# Altium schematic symbol library SCH - MCU - NXP MIMX8MM4CVTKZAA.Schlib: 1 symbol
Pins are listed as number, name and electrical type; pins without a type are passive.

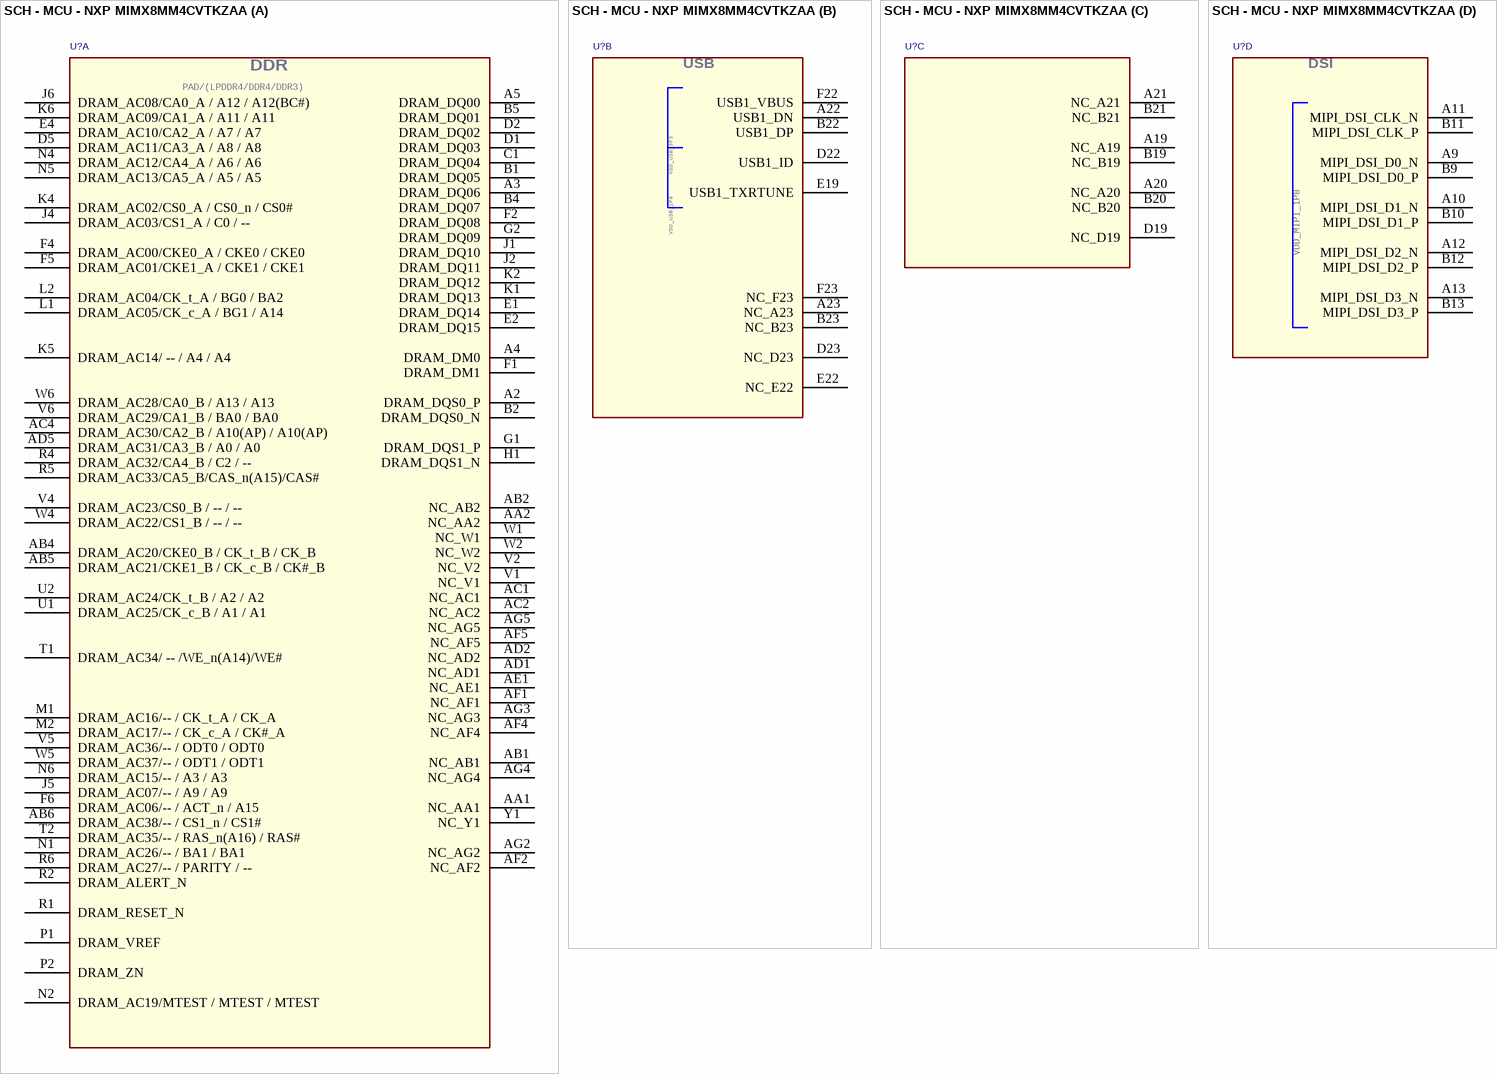
[diagram p0: symbol SCH - MCU - NXP MIMX8MM4CVTKZAA]

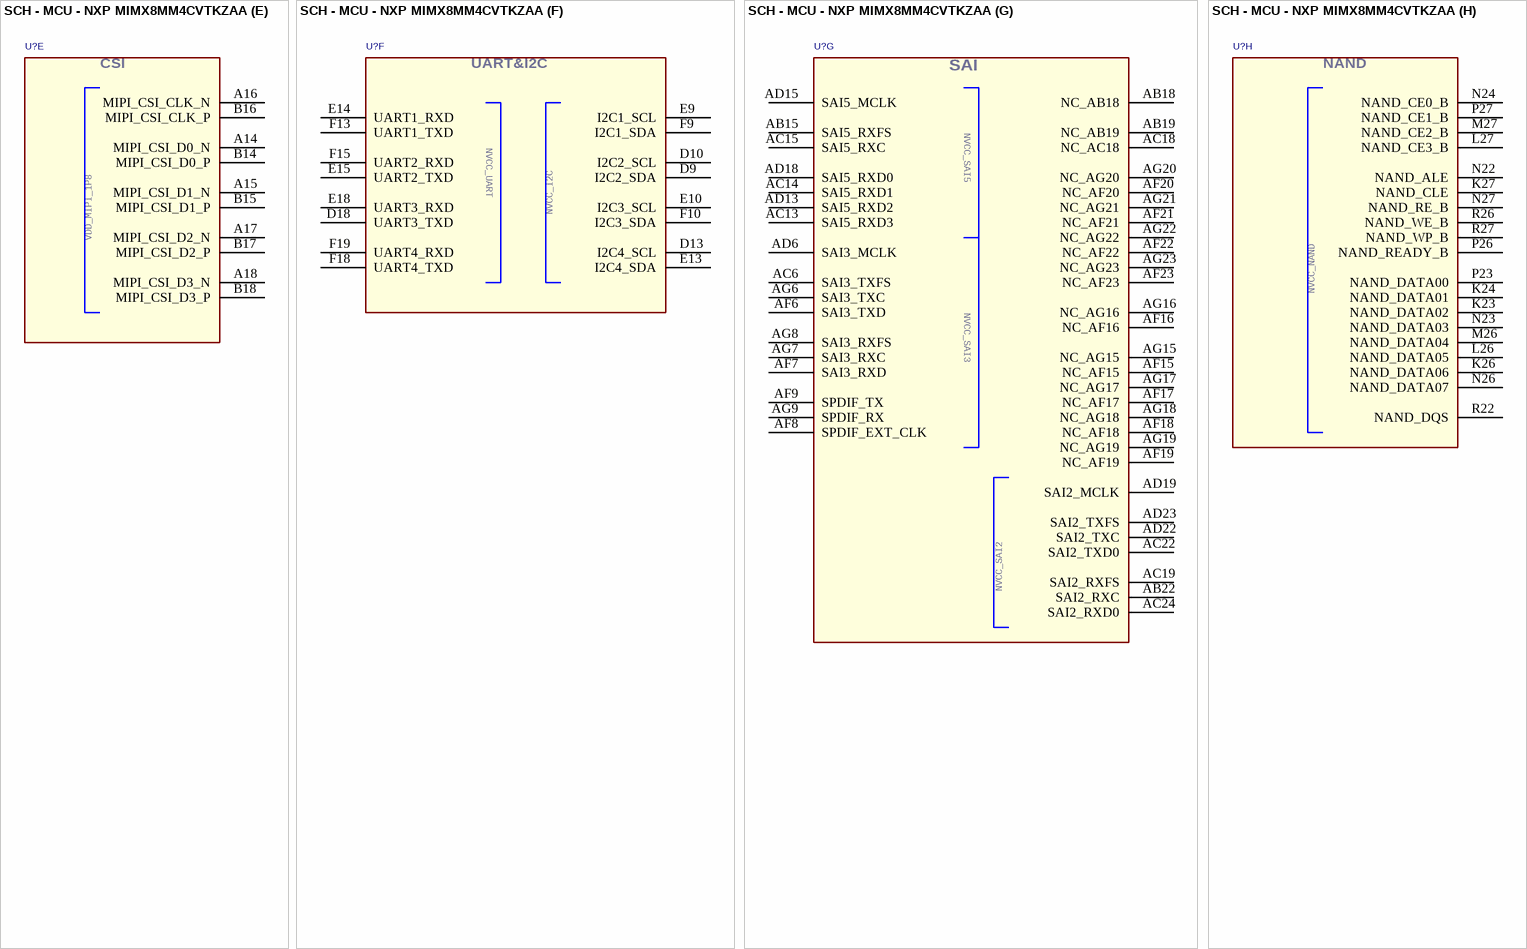
[diagram p1: symbol SCH - MCU - NXP MIMX8MM4CVTKZAA]

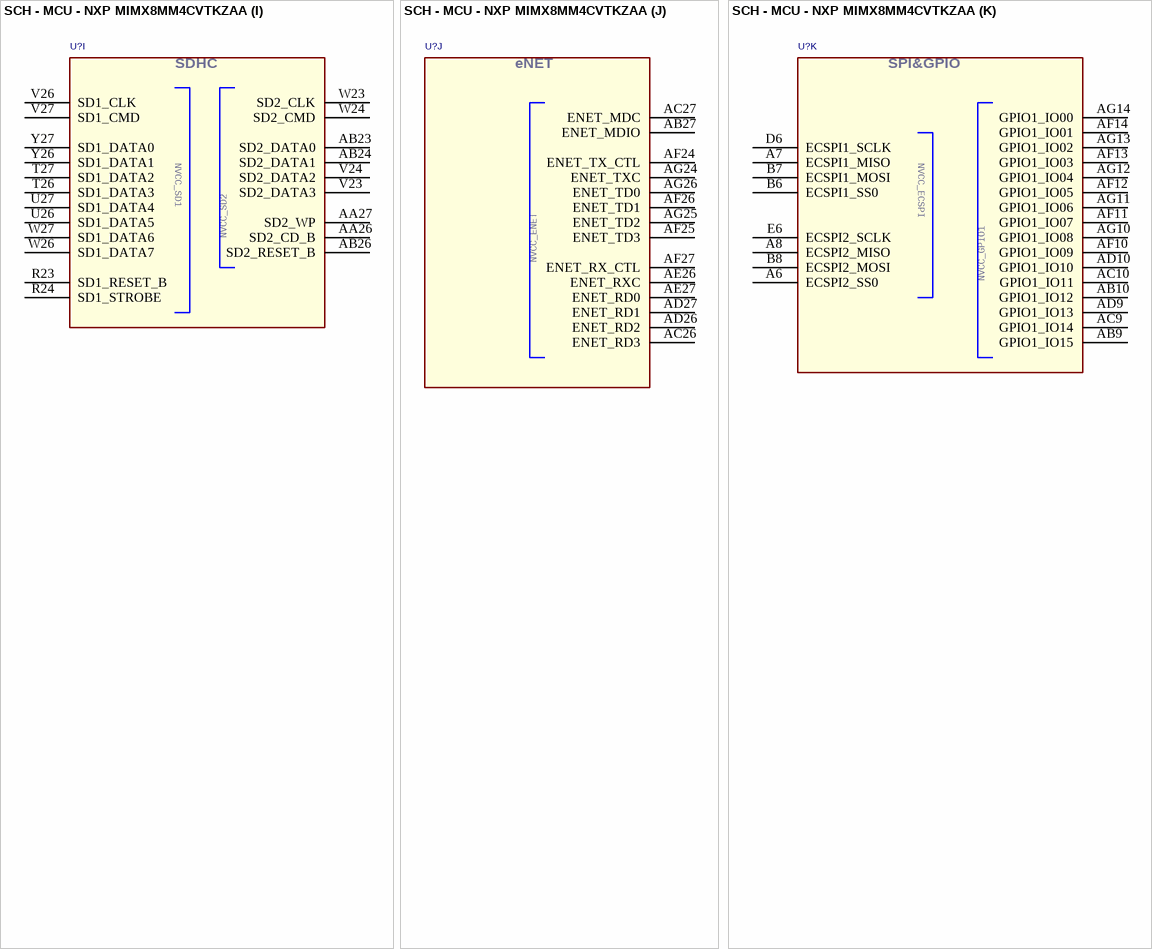
[diagram p2: symbol SCH - MCU - NXP MIMX8MM4CVTKZAA]

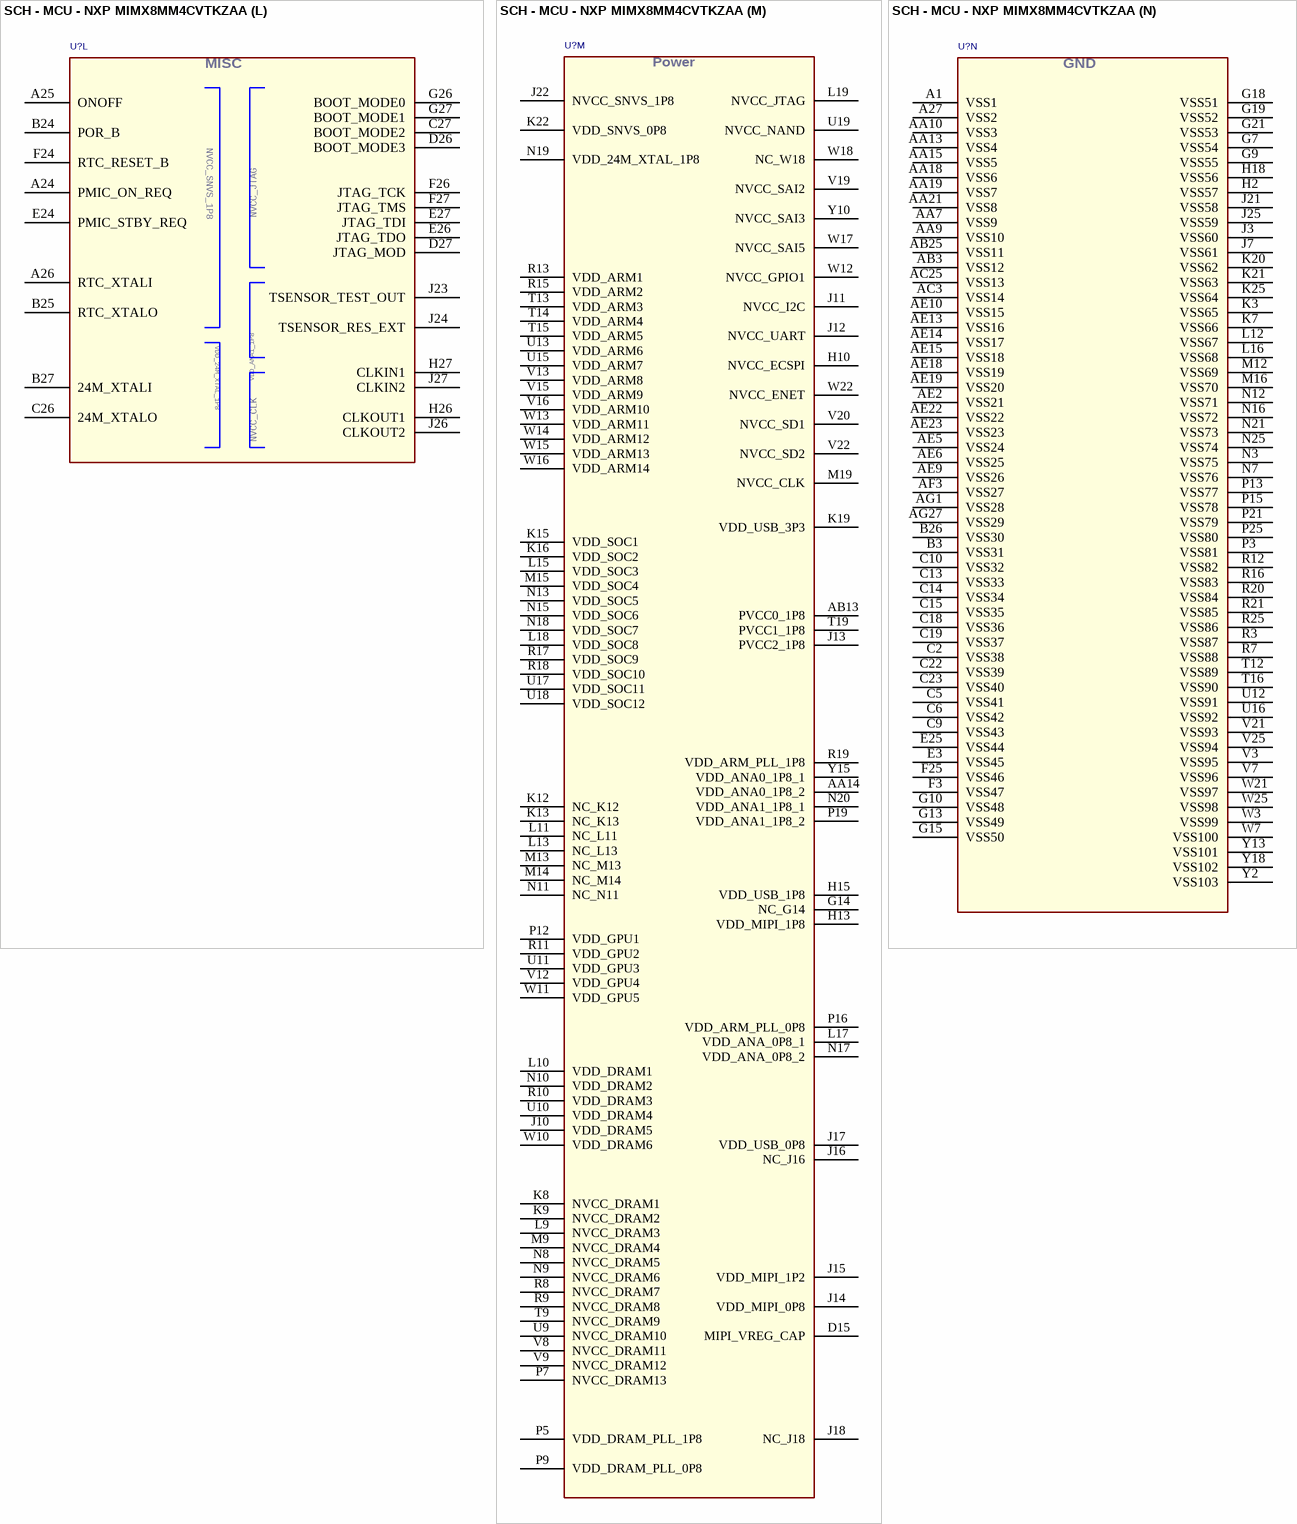
[diagram p3: symbol SCH - MCU - NXP MIMX8MM4CVTKZAA]

## SCH - MCU - NXP MIMX8MM4CVTKZAA
designator U?
part A pins: A2 DRAM_DQS0_P, A3 DRAM_DQ06, A4 DRAM_DM0, A5 DRAM_DQ00, AA1 NC_AA1, AA2 NC_AA2, AB1 NC_AB1, AB2 NC_AB2, AB4 DRAM_AC20/CKE0_B / CK_t_B / CK_B, AB5 DRAM_AC21/CKE1_B / CK_c_B / CK#_B, AB6 DRAM_AC38/-- / CS1_n / CS1#, AC1 NC_AC1, AC2 NC_AC2, AC4 DRAM_AC30/CA2_B / A10(AP) / A10(AP), AD1 NC_AD1, AD2 NC_AD2, AD5 DRAM_AC31/CA3_B / A0 / A0, AE1 NC_AE1, AF1 NC_AF1, AF2 NC_AF2, AF4 NC_AF4, AF5 NC_AF5, AG2 NC_AG2, AG3 NC_AG3, AG4 NC_AG4, AG5 NC_AG5, B1 DRAM_DQ05, B2 DRAM_DQS0_N, B4 DRAM_DQ07, B5 DRAM_DQ01, C1 DRAM_DQ04, D1 DRAM_DQ03, D2 DRAM_DQ02, D5 DRAM_AC11/CA3_A / A8 / A8, E1 DRAM_DQ14, E2 DRAM_DQ15, E4 DRAM_AC10/CA2_A / A7 / A7, F1 DRAM_DM1, F2 DRAM_DQ08, F4 DRAM_AC00/CKE0_A / CKE0 / CKE0, F5 DRAM_AC01/CKE1_A / CKE1 / CKE1, F6 DRAM_AC06/-- / ACT_n / A15, G1 DRAM_DQS1_P, G2 DRAM_DQ09, H1 DRAM_DQS1_N, J1 DRAM_DQ10, J2 DRAM_DQ11, J4 DRAM_AC03/CS1_A / C0 / --, J5 DRAM_AC07/-- / A9 / A9, J6 DRAM_AC08/CA0_A / A12 / A12(BC#), K1 DRAM_DQ13, K2 DRAM_DQ12, K4 DRAM_AC02/CS0_A / CS0_n / CS0#, K5 DRAM_AC14/ -- / A4 / A4, K6 DRAM_AC09/CA1_A / A11 / A11, L1 DRAM_AC05/CK_c_A / BG1 / A14, L2 DRAM_AC04/CK_t_A / BG0 / BA2, M1 DRAM_AC16/-- / CK_t_A / CK_A, M2 DRAM_AC17/-- / CK_c_A / CK#_A, N1 DRAM_AC26/-- / BA1 / BA1, N2 DRAM_AC19/MTEST / MTEST / MTEST, N4 DRAM_AC12/CA4_A / A6 / A6, N5 DRAM_AC13/CA5_A / A5 / A5, N6 DRAM_AC15/-- / A3 / A3, P1 DRAM_VREF, P2 DRAM_ZN, R1 DRAM_RESET_N, R2 DRAM_ALERT_N, R4 DRAM_AC32/CA4_B / C2 / --, R5 DRAM_AC33/CA5_B/CAS_n(A15)/CAS#, R6 DRAM_AC27/-- / PARITY / --, T1 DRAM_AC34/ -- /WE_n(A14)/WE#, T2 DRAM_AC35/-- / RAS_n(A16) / RAS#, U1 DRAM_AC25/CK_c_B / A1 / A1, U2 DRAM_AC24/CK_t_B / A2 / A2, V1 NC_V1, V2 NC_V2, V4 DRAM_AC23/CS0_B / -- / --, V5 DRAM_AC36/-- / ODT0 / ODT0, V6 DRAM_AC29/CA1_B / BA0 / BA0, W1 NC_W1, W2 NC_W2, W4 DRAM_AC22/CS1_B / -- / --, W5 DRAM_AC37/-- / ODT1 / ODT1, W6 DRAM_AC28/CA0_B / A13 / A13, Y1 NC_Y1
part B pins: A22 USB1_DN, A23 NC_A23, B22 USB1_DP, B23 NC_B23, D22 USB1_ID, D23 NC_D23, E19 USB1_TXRTUNE, E22 NC_E22, F22 USB1_VBUS, F23 NC_F23
part C pins: A19 NC_A19, A20 NC_A20, A21 NC_A21, B19 NC_B19, B20 NC_B20, B21 NC_B21, D19 NC_D19
part D pins: A9 MIPI_DSI_D0_N, A10 MIPI_DSI_D1_N, A11 MIPI_DSI_CLK_N, A12 MIPI_DSI_D2_N, A13 MIPI_DSI_D3_N, B9 MIPI_DSI_D0_P, B10 MIPI_DSI_D1_P, B11 MIPI_DSI_CLK_P, B12 MIPI_DSI_D2_P, B13 MIPI_DSI_D3_P
part E pins: A14 MIPI_CSI_D0_N, A15 MIPI_CSI_D1_N, A16 MIPI_CSI_CLK_N, A17 MIPI_CSI_D2_N, A18 MIPI_CSI_D3_N, B14 MIPI_CSI_D0_P, B15 MIPI_CSI_D1_P, B16 MIPI_CSI_CLK_P, B17 MIPI_CSI_D2_P, B18 MIPI_CSI_D3_P
part F pins: D9 I2C2_SDA, D10 I2C2_SCL, D13 I2C4_SCL, D18 UART3_TXD, E9 I2C1_SCL, E10 I2C3_SCL, E13 I2C4_SDA, E14 UART1_RXD, E15 UART2_TXD, E18 UART3_RXD, F9 I2C1_SDA, F10 I2C3_SDA, F13 UART1_TXD, F15 UART2_RXD, F18 UART4_TXD, F19 UART4_RXD
part G pins: AB15 SAI5_RXFS, AB18 NC_AB18, AB19 NC_AB19, AB22 SAI2_RXC, AC6 SAI3_TXFS, AC13 SAI5_RXD3, AC14 SAI5_RXD1, AC15 SAI5_RXC, AC18 NC_AC18, AC19 SAI2_RXFS, AC22 SAI2_TXD0, AC24 SAI2_RXD0, AD6 SAI3_MCLK, AD13 SAI5_RXD2, AD15 SAI5_MCLK, AD18 SAI5_RXD0, AD19 SAI2_MCLK, AD22 SAI2_TXC, AD23 SAI2_TXFS, AF6 SAI3_TXD, AF7 SAI3_RXD, AF8 SPDIF_EXT_CLK, AF9 SPDIF_TX, AF15 NC_AF15, AF16 NC_AF16, AF17 NC_AF17, AF18 NC_AF18, AF19 NC_AF19, AF20 NC_AF20, AF21 NC_AF21, AF22 NC_AF22, AF23 NC_AF23, AG6 SAI3_TXC, AG7 SAI3_RXC, AG8 SAI3_RXFS, AG9 SPDIF_RX, AG15 NC_AG15, AG16 NC_AG16, AG17 NC_AG17, AG18 NC_AG18, AG19 NC_AG19, AG20 NC_AG20, AG21 NC_AG21, AG22 NC_AG22, AG23 NC_AG23
part H pins: K23 NAND_DATA02, K24 NAND_DATA01, K26 NAND_DATA06, K27 NAND_CLE, L26 NAND_DATA05, L27 NAND_CE3_B, M26 NAND_DATA04, M27 NAND_CE2_B, N22 NAND_ALE, N23 NAND_DATA03, N24 NAND_CE0_B, N26 NAND_DATA07, N27 NAND_RE_B, P23 NAND_DATA00, P26 NAND_READY_B, P27 NAND_CE1_B, R22 NAND_DQS, R26 NAND_WE_B, R27 NAND_WP_B
part I pins: AA26 SD2_CD_B, AA27 SD2_WP, AB23 SD2_DATA0, AB24 SD2_DATA1, AB26 SD2_RESET_B, R23 SD1_RESET_B, R24 SD1_STROBE, T26 SD1_DATA3, T27 SD1_DATA2, U26 SD1_DATA5, U27 SD1_DATA4, V23 SD2_DATA3, V24 SD2_DATA2, V26 SD1_CLK, V27 SD1_CMD, W23 SD2_CLK, W24 SD2_CMD, W26 SD1_DATA7, W27 SD1_DATA6, Y26 SD1_DATA1, Y27 SD1_DATA0
part J pins: AB27 ENET_MDIO, AC26 ENET_RD3, AC27 ENET_MDC, AD26 ENET_RD2, AD27 ENET_RD1, AE26 ENET_RXC, AE27 ENET_RD0, AF24 ENET_TX_CTL, AF25 ENET_TD3, AF26 ENET_TD1, AF27 ENET_RX_CTL, AG24 ENET_TXC, AG25 ENET_TD2, AG26 ENET_TD0
part K pins: A6 ECSPI2_SS0, A7 ECSPI1_MISO, A8 ECSPI2_MISO, AB9 GPIO1_IO15, AB10 GPIO1_IO12, AC9 GPIO1_IO14, AC10 GPIO1_IO11, AD9 GPIO1_IO13, AD10 GPIO1_IO10, AF10 GPIO1_IO09, AF11 GPIO1_IO07, AF12 GPIO1_IO05, AF13 GPIO1_IO03, AF14 GPIO1_IO01, AG10 GPIO1_IO08, AG11 GPIO1_IO06, AG12 GPIO1_IO04, AG13 GPIO1_IO02, AG14 GPIO1_IO00, B6 ECSPI1_SS0, B7 ECSPI1_MOSI, B8 ECSPI2_MOSI, D6 ECSPI1_SCLK, E6 ECSPI2_SCLK
part L pins: A24 PMIC_ON_REQ, A25 ONOFF, A26 RTC_XTALI, B24 POR_B, B25 RTC_XTALO, B27 24M_XTALI, C26 24M_XTALO, C27 BOOT_MODE2, D26 BOOT_MODE3, D27 JTAG_MOD, E24 PMIC_STBY_REQ, E26 JTAG_TDO, E27 JTAG_TDI, F24 RTC_RESET_B, F26 JTAG_TCK, F27 JTAG_TMS, G26 BOOT_MODE0, G27 BOOT_MODE1, H26 CLKOUT1, H27 CLKIN1, J23 TSENSOR_TEST_OUT, J24 TSENSOR_RES_EXT, J26 CLKOUT2, J27 CLKIN2
part M pins: AA14 VDD_ANA0_1P8_2 (power), AB13 PVCC0_1P8 (power), D15 MIPI_VREG_CAP, G14 NC_G14, H10 NVCC_ECSPI (power), H13 VDD_MIPI_1P8 (power), H15 VDD_USB_1P8 (power), J10 VDD_DRAM5 (power), J11 NVCC_I2C (power), J12 NVCC_UART (power), J13 PVCC2_1P8 (power), J14 VDD_MIPI_0P8 (power), J15 VDD_MIPI_1P2 (power), J16 NC_J16, J17 VDD_USB_0P8 (power), J18 NC_J18, J22 NVCC_SNVS_1P8, K8 NVCC_DRAM1 (power), K9 NVCC_DRAM2 (power), K12 NC_K12, K13 NC_K13, K15 VDD_SOC1 (power), K16 VDD_SOC2 (power), K19 VDD_USB_3P3 (power), K22 VDD_SNVS_0P8 (power), L9 NVCC_DRAM3 (power), L10 VDD_DRAM1 (power), L11 NC_L11, L13 NC_L13, L15 VDD_SOC3 (power), L17 VDD_ANA_0P8_1 (power), L18 VDD_SOC8 (power), L19 NVCC_JTAG (power), M9 NVCC_DRAM4 (power), M13 NC_M13, M14 NC_M14, M15 VDD_SOC4 (power), M19 NVCC_CLK (power), N8 NVCC_DRAM5 (power), N9 NVCC_DRAM6 (power), N10 VDD_DRAM2 (power), N11 NC_N11, N13 VDD_SOC5 (power), N15 VDD_SOC6 (power), N17 VDD_ANA_0P8_2 (power), N18 VDD_SOC7 (power), N19 VDD_24M_XTAL_1P8 (power), N20 VDD_ANA1_1P8_1 (power), P5 VDD_DRAM_PLL_1P8 (power), P7 NVCC_DRAM13, P9 VDD_DRAM_PLL_0P8 (power), P12 VDD_GPU1 (power), P16 VDD_ARM_PLL_0P8 (power), P19 VDD_ANA1_1P8_2 (power), R8 NVCC_DRAM7 (power), R9 NVCC_DRAM8 (power), R10 VDD_DRAM3 (power), R11 VDD_GPU2 (power), R13 VDD_ARM1 (power), R15 VDD_ARM2 (power), R17 VDD_SOC9 (power), R18 VDD_SOC10 (power), R19 VDD_ARM_PLL_1P8 (power), T9 NVCC_DRAM9 (power), T13 VDD_ARM3 (power), T14 VDD_ARM4 (power), T15 VDD_ARM5 (power), T19 PVCC1_1P8 (power), U9 NVCC_DRAM10 (power), U10 VDD_DRAM4 (power), U11 VDD_GPU3 (power), U13 VDD_ARM6 (power), U15 VDD_ARM7 (power), U17 VDD_SOC11 (power), U18 VDD_SOC12 (power), U19 NVCC_NAND (power), V8 NVCC_DRAM11 (power), V9 NVCC_DRAM12 (power), V12 VDD_GPU4 (power), V13 VDD_ARM8 (power), V15 VDD_ARM9 (power), V16 VDD_ARM10 (power), V19 NVCC_SAI2 (power), V20 NVCC_SD1 (power), V22 NVCC_SD2 (power), W10 VDD_DRAM6 (power), W11 VDD_GPU5 (power), W12 NVCC_GPIO1 (power), W13 VDD_ARM11 (power), W14 VDD_ARM12 (power), W15 VDD_ARM13 (power), W16 VDD_ARM14 (power), W17 NVCC_SAI5 (power), W18 NC_W18, W22 NVCC_ENET (power), Y10 NVCC_SAI3 (power), Y15 VDD_ANA0_1P8_1 (power)
part N pins: A1 VSS1 (power), A27 VSS2 (power), AA7 VSS9 (power), AA9 VSS10 (power), AA10 VSS3 (power), AA13 VSS4 (power), AA15 VSS5 (power), AA18 VSS6 (power), AA19 VSS7 (power), AA21 VSS8 (power), AB3 VSS12 (power), AB25 VSS11 (power), AC3 VSS14 (power), AC25 VSS13 (power), AE2 VSS21 (power), AE5 VSS24 (power), AE6 VSS25 (power), AE9 VSS26 (power), AE10 VSS15 (power), AE13 VSS16 (power), AE14 VSS17 (power), AE15 VSS18 (power), AE18 VSS19 (power), AE19 VSS20 (power), AE22 VSS22 (power), AE23 VSS23 (power), AF3 VSS27 (power), AG1 VSS28 (power), AG27 VSS29 (power), B3 VSS31 (power), B26 VSS30 (power), C2 VSS38 (power), C5 VSS41 (power), C6 VSS42 (power), C9 VSS43 (power), C10 VSS32 (power), C13 VSS33 (power), C14 VSS34 (power), C15 VSS35 (power), C18 VSS36 (power), C19 VSS37 (power), C22 VSS39 (power), C23 VSS40 (power), E3 VSS45 (power), E25 VSS44 (power), F3 VSS47 (power), F25 VSS46 (power), G7 VSS54 (power), G9 VSS55 (power), G10 VSS48 (power), G13 VSS49 (power), G15 VSS50 (power), G18 VSS51 (power), G19 VSS52 (power), G21 VSS53 (power), H2 VSS57 (power), H18 VSS56 (power), J3 VSS60 (power), J7 VSS61 (power), J21 VSS58 (power), J25 VSS59 (power), K3 VSS65 (power), K7 VSS66 (power), K20 VSS62 (power), K21 VSS63 (power), K25 VSS64 (power), L12 VSS67 (power), L16 VSS68 (power), M12 VSS69 (power), M16 VSS70 (power), N3 VSS75 (power), N7 VSS76 (power), N12 VSS71 (power), N16 VSS72 (power), N21 VSS73 (power), N25 VSS74 (power), P3 VSS81 (power), P13 VSS77 (power), P15 VSS78 (power), P21 VSS79 (power), P25 VSS80 (power), R3 VSS87 (power), R7 VSS88 (power), R12 VSS82 (power), R16 VSS83 (power), R20 VSS84 (power), R21 VSS85 (power), R25 VSS86 (power), T12 VSS89 (power), T16 VSS90 (power), U12 VSS91 (power), U16 VSS92 (power), V3 VSS95 (power), V7 VSS96 (power), V21 VSS93 (power), V25 VSS94 (power), W3 VSS99 (power), W7 VSS100 (power), W21 VSS97 (power), W25 VSS98 (power), Y2 VSS103 (power), Y13 VSS101 (power), Y18 VSS102 (power)
part A text: DDR; PAD/(LPDDR4/DDR4/DDR3)
part B text: USB
part D text: DSI
part E text: CSI
part F text: UART&I2C
part G text: SAI
part H text: NAND
part I text: SDHC
part J text: eNET
part K text: SPI&GPIO
part L text: MISC; VDD_ANA1_1P8
part M text: Power
part N text: GND